# EAGLE library part PCA9541 (library 0_jc-custom-eagle6)
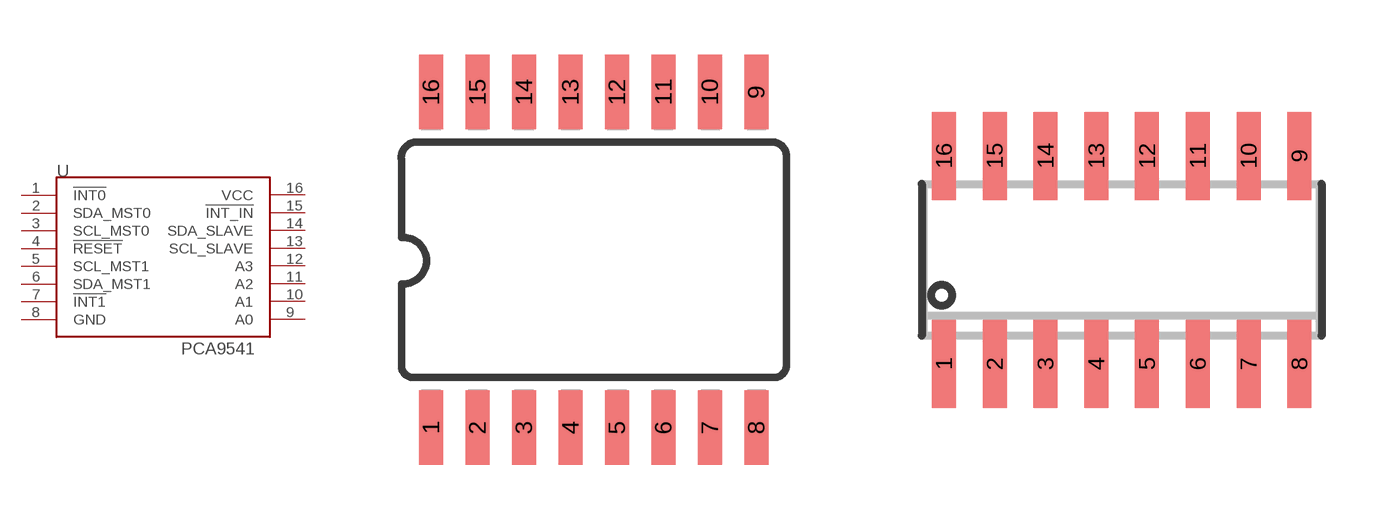
[diagram p32: symbol with the pads of SO16-300MIL; footprints SO16-300MIL, SOIC16]

Designator prefix -

## PCA9541SO16  [SO16-300MIL]
1  !INT0
2  SDA_MST0
3  SCL_MST0
4  !RESET
5  SCL_MST1
6  SDA_MST1
7  !INT1
8  GND
9  A0
10  A1
11  A2
12  A3
13  SCL_SLAVE
14  SDA_SLAVE
15  !INT_IN
16  VCC

## PCA9541SO16-2  [SOIC16]
Pads as for SO16-300MIL

## Footprint SO16-300MIL (pad centres in mm)
smd 0.66 x 2.032: 1 -4.445,-4.585; 2 -3.175,-4.585; 3 -1.905,-4.585; 4 -0.635,-4.585; 5 0.635,-4.585; 6 1.905,-4.585; 7 3.175,-4.585; 8 4.445,-4.585; 9 4.445,4.585; 10 3.175,4.585; 11 1.905,4.585; 12 0.635,4.585; 13 -0.635,4.585; 14 -1.905,4.585; 15 -3.175,4.585; 16 -4.445,4.585

## Footprint SOIC16 (pad centres in mm)
SMALL OUTLINE INTEGRATED CIRCUIT
smd 0.6 x 2.2: 1 -4.445,-2.6; 2 -3.175,-2.6; 3 -1.905,-2.6; 4 -0.635,-2.6; 5 0.635,-2.6; 6 1.905,-2.6; 7 3.175,-2.6; 8 4.445,-2.6; 9 4.445,2.6; 10 3.175,2.6; 11 1.905,2.6; 12 0.635,2.6; 13 -0.635,2.6; 14 -1.905,2.6; 15 -3.175,2.6; 16 -4.445,2.6